# EAGLE library part ADXL326 (library jack_IC)
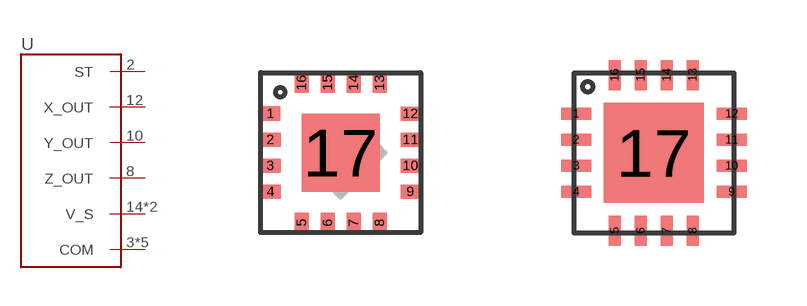
[diagram p1: symbol with the pads of LFCSP_LQ; footprints LFCSP_LQ, QFN16]

Designator prefix U

## ADXL326_LFCSP_LQ  [LFCSP_LQ]
2  ST
3  COM
5  COM
6  COM
7  COM
8  Z_OUT
10  Y_OUT
12  X_OUT
14  V_S
15  V_S
17  COM

## ADXL326_QFN16  [QFN16]
Pads as for LFCSP_LQ

## Footprint LFCSP_LQ (pad centres in mm)
smd 0.5 x 0.35: 1 -1.75,0.975; 2 -1.75,0.325; 3 -1.75,-0.325; 4 -1.75,-0.975; 9 1.75,-0.975; 10 1.75,-0.325; 11 1.75,0.325; 12 1.75,0.975
smd 0.35 x 0.5: 5 -0.975,-1.75; 6 -0.325,-1.75; 7 0.325,-1.75; 8 0.975,-1.75; 13 0.975,1.75; 14 0.325,1.75; 15 -0.325,1.75; 16 -0.975,1.75
smd 1.95 x 1.95: 17 0,0

## Footprint QFN16 (pad centres in mm)
smd 0.75 x 0.3: 1 -1.945,0.975; 2 -1.945,0.325; 3 -1.945,-0.325; 4 -1.945,-0.975; 9 1.945,-0.975; 10 1.945,-0.325; 11 1.945,0.325; 12 1.945,0.975
smd 0.3 x 0.75: 5 -0.975,-1.945; 6 -0.325,-1.945; 7 0.325,-1.945; 8 0.975,-1.945; 13 0.975,1.945; 14 0.325,1.945; 15 -0.325,1.945; 16 -0.975,1.945
smd 2.5 x 2.5: 17 0,0